# Altium schematic symbol library Voltage.SchLib: 15 symbols
Pins are listed as number, name and electrical type; pins without a type are passive.

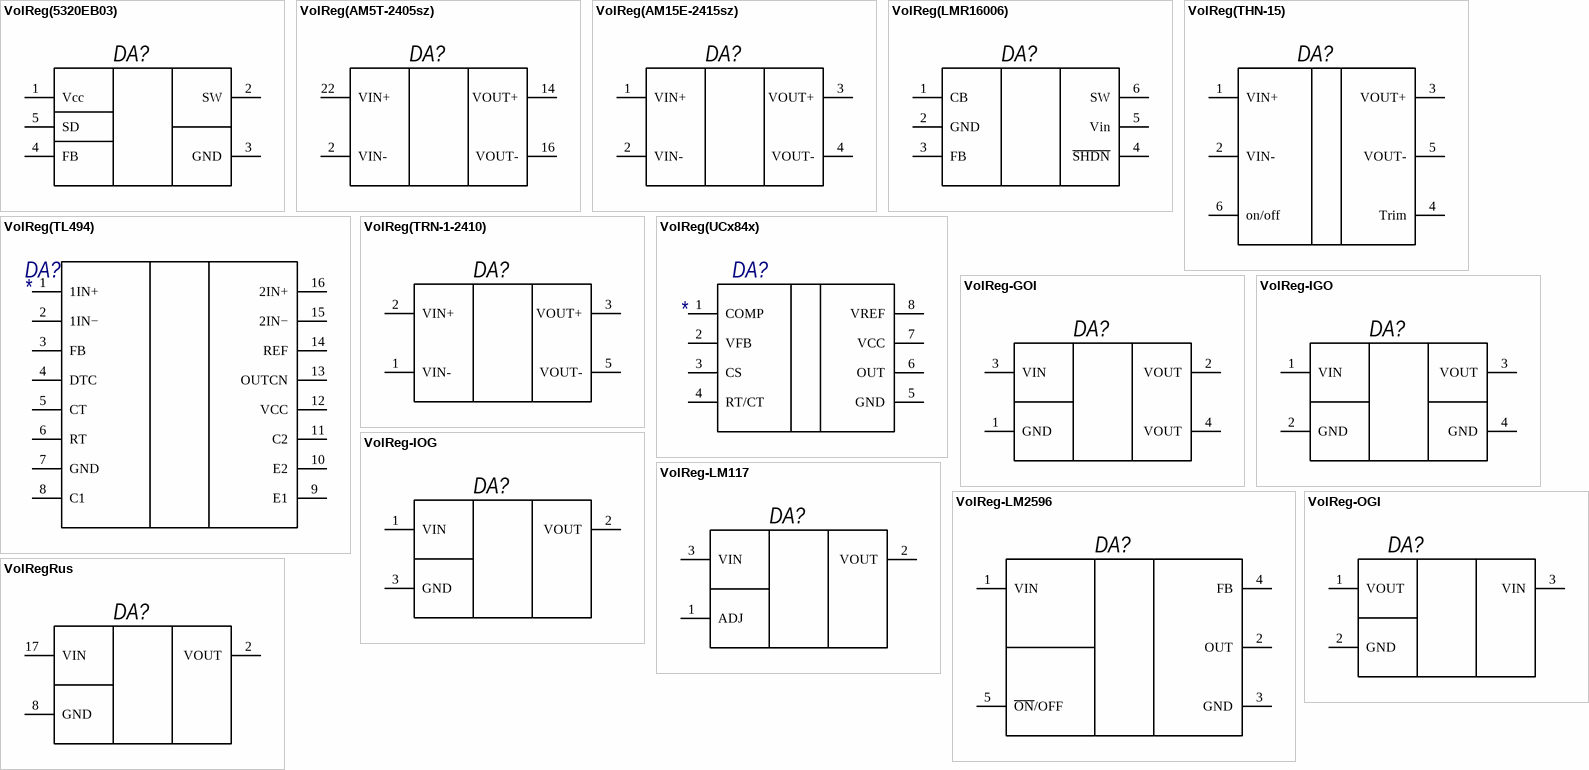
[diagram p0: symbols VolReg(5320ЕВ03) to VolRegRus]

## VolReg(5320ЕВ03)
designator DA?
pins: 1 Vcc, 2 SW, 3 GND, 4 FB, 5 SD

## VolReg(AM5T-2405sz)
designator DA?
pins: 2 VIN- (power), 14 VOUT+ (power), 16 VOUT- (power), 22 VIN+ (power)

## VolReg(AM15E-2415sz)
designator DA?
pins: 1 VIN+ (power), 2 VIN- (power), 3 VOUT+ (power), 4 VOUT- (power)

## VolReg(LMR16006)
designator DA?
pins: 1 CB, 2 GND, 3 FB, 4 ~{SHDN}, 5 Vin, 6 SW

## VolReg(THN-15)
designator DA?
pins: 1 VIN+ (power), 2 VIN- (power), 3 VOUT+ (power), 4 Trim (power), 5 VOUT- (power), 6 on/off (power)

## VolReg(TL494)
designator DA?
footprint DIP_16 (DIP, pitch 2.54mm, 300mil Width)
footprint SOIC-16 (Small Outline; 16 Leads; Body Width 3.9 mm; Pitch 1.27 mm)
pins: 1 1IN+, 2 1IN−, 3 FB, 4 DTC, 5 CT, 6 RT, 7 GND, 8 C1, 9 E1, 10 E2, 11 C2, 12 VCC, 13 OUTCN, 14 REF, 15 2IN−, 16 2IN+

## VolReg(TRN-1-2410)
designator DA?
pins: 1 VIN- (power), 2 VIN+ (power), 3 VOUT+ (power), 5 VOUT- (power)

## VolReg(UCx84x)
designator DA?
footprint DIP_16 (DIP, pitch 2.54mm, 300mil Width)
footprint SOIC-16 (Small Outline; 16 Leads; Body Width 3.9 mm; Pitch 1.27 mm)
pins: 1 COMP, 2 VFB, 3 CS, 4 RT/CT, 5 GND, 6 OUT, 7 VCC, 8 VREF

## VolReg-GOI
designator DA?
pins: 1 GND (power), 2 VOUT (power), 3 VIN (power), 4 VOUT (power)

## VolReg-IGO
designator DA?
pins: 1 VIN (power), 2 GND (power), 3 VOUT (power), 4 GND (power)

## VolReg-IOG
designator DA?
pins: 1 VIN (power), 2 VOUT (power), 3 GND (power)

## VolReg-LM117
designator DA?
pins: 1 ADJ (power), 2 VOUT (power), 3 VIN (power)

## VolReg-LM2596
designator DA?
pins: 1 VIN (power), 2 OUT (power), 3 GND (power), 4 FB (power), 5 ~{ON}/OFF (power)

## VolReg-OGI
designator DA?
pins: 1 VOUT (power), 2 GND (power), 3 VIN (power)
1 alternate drawing of the same symbol

## VolRegRus
designator DA?
pins: 2 VOUT (power), 8 GND (power), 17 VIN (power)